# EAGLE library part NYS215 (library NYS215)
Phone Connectors 1/4" STEREO SWITCHED REAN Source: Datasheet
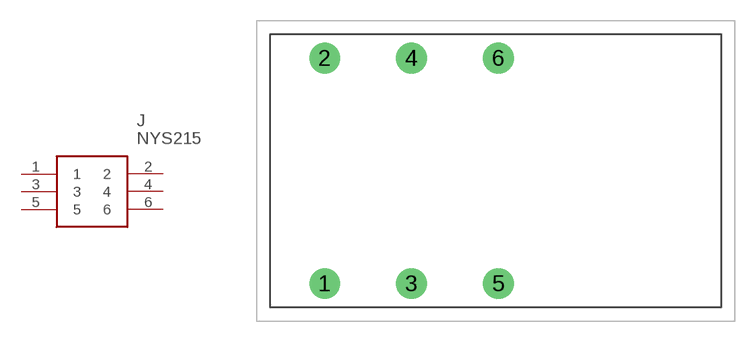
[diagram p0: symbol with the pads of NYS215; footprint NYS215]

Designator prefix J

## NYS215 (Description: Phone Connectors 1/4" STEREO SWITCHED REAN; Height: 15.85mm; Manufacturer_Name: Neutrik; Manufacturer_Part_Number: NYS215; Mouser_Part_Number: 568-NYS215; Mouser_Price-Stock: https://www.mouser.co.uk/ProductDetail/REAN/NYS215?qs=JfNPhaIww3IP3mAnpHYtWw%3D%3D)  [NYS215]
1  1
2  2
3  3
4  4
5  5
6  6

## Footprint NYS215 (pad centres in mm)
NYS215-2
drill 1.5 pad 2.25: 1 0,0; 2 0,16.5; 3 6.35,0; 4 6.35,16.5; 5 12.7,0; 6 12.7,16.5